# EAGLE library part 621006242921 (library Wuerth_Elektronik_eiCan_Pin_&_Socked_Headers_v1.3)
WR-PHD 2.00mm Dual SMT Socket Header, 6 Pins
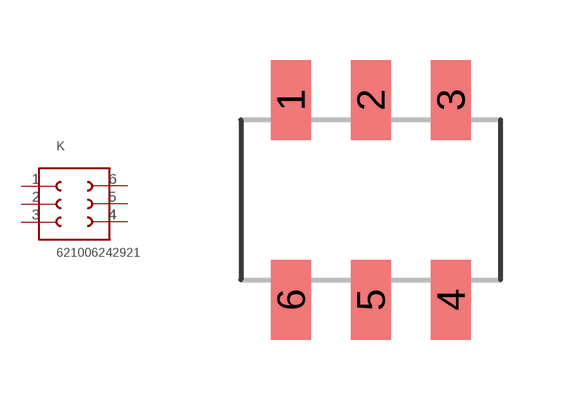
[diagram p303: symbol with the pads of 621006242921; footprint 621006242921]

Designator prefix K

## 621006242921  [621006242921]
1  1  pas
2  2  pas
3  3  pas
4  4  pas
5  5  pas
6  6  pas

## Footprint 621006242921 (pad centres in mm)
WR-PHD 2.00mm Dual SMT Socket Header, 6 Pins
smd 1 x 2: 1 -2,2.5; 2 0,2.5; 3 2,2.5; 4 2,-2.5; 5 0,-2.5; 6 -2,-2.5